# Altium footprint library SOIC127P1030X264-20N.PcbLib: 1 footprints
Each footprint in its own frame and in the unit in brackets; x right, y up, seen from the top. Pads: shape width x height; smd on the part's side, far side on the other; paste and mask are expansions set on the pad; w line width, h text height; cw(c..) or ccw(c..) is an arc to the next point about the centre after c.
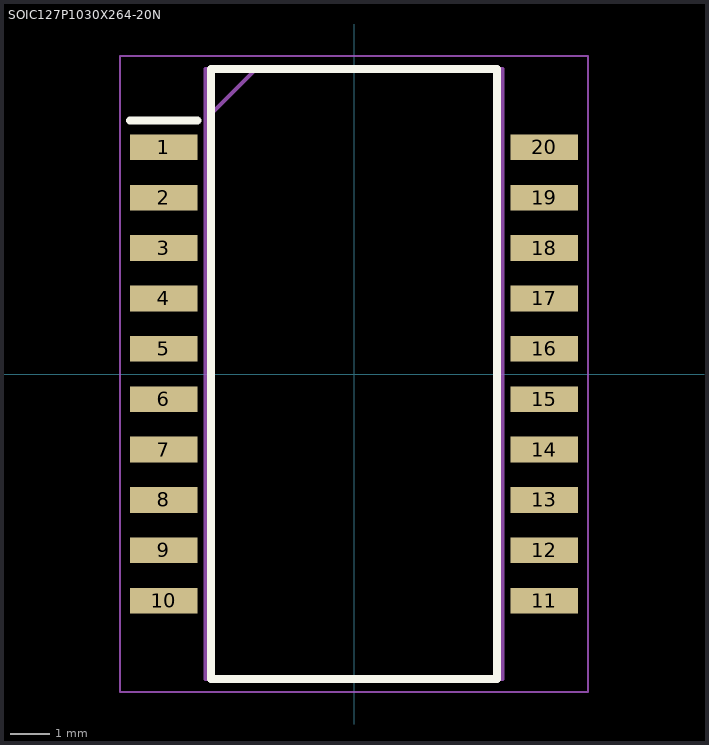
[diagram p0: the footprint, top view; thin cyan lines are the x and y axes]

## SOIC127P1030X264-20N [mm]
pads (20):
  rect 1.7x0.65 smd: 1(-4.8,5.715) 2(-4.8,4.445) 3(-4.8,3.175) 4(-4.8,1.905) 5(-4.8,0.635) 6(-4.8,-0.635) 7(-4.8,-1.905) 8(-4.8,-3.175) 9(-4.8,-4.445) 10(-4.8,-5.715) 11(4.8,-5.715) 12(4.8,-4.445) 13(4.8,-3.175) 14(4.8,-1.905) 15(4.8,-0.635) 16(4.8,0.635) 17(4.8,1.905) 18(4.8,3.175) 19(4.8,4.445) 20(4.8,5.715)
Top Overlay:
  lines w0.2: -5.65,6.39 -3.95,6.39 ; -3.6,-7.685 3.6,-7.685 3.6,7.685 -3.6,7.685 -3.6,-7.685
Mechanical 15:
  lines w0.1: -3.745,6.415 -2.475,7.685 ; -3.745,-7.685 3.745,-7.685 3.745,7.685 -3.745,7.685 -3.745,-7.685
Mechanical 20:
  lines w0.05: -5.9,-8.02 5.9,-8.02 5.9,8.02 -5.9,8.02 -5.9,-8.02